# Altium schematic symbol library SPR1770C 2R2.Schlib: 1 symbol
Pins are listed as number, name and electrical type; pins without a type are passive.

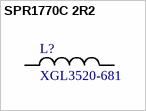
[diagram p0: symbol SPR1770C 2R2]

## SPR1770C 2R2
designator L?, comment XGL3520-681
Inductor
pins: 1, 2